# EAGLE library part MCU (library F_ck)
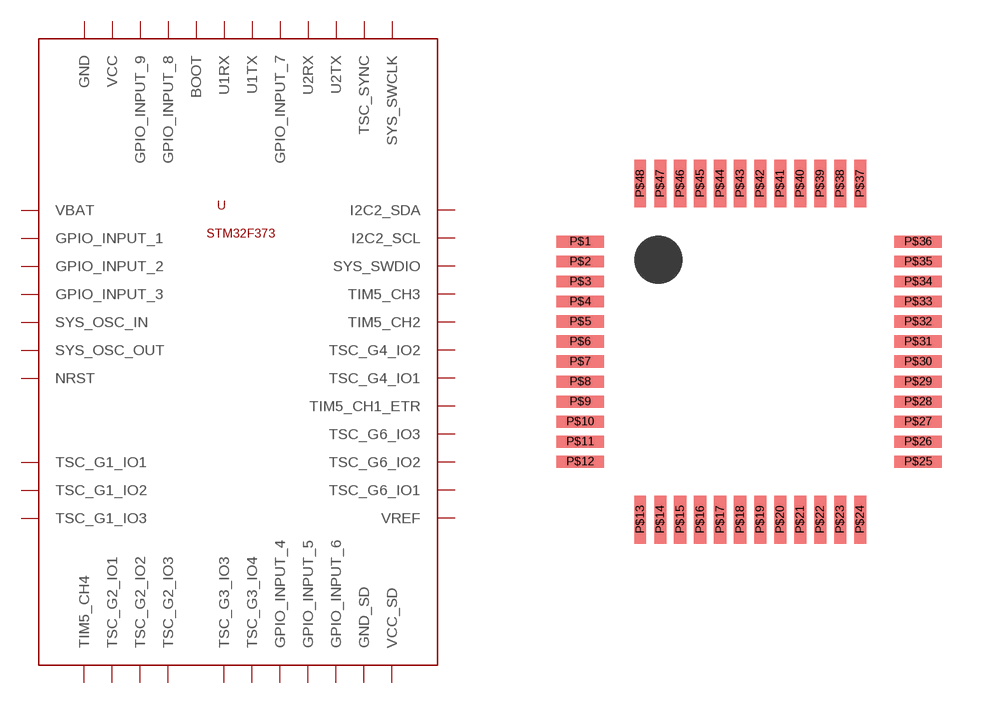
[diagram p3: symbol with the pads of LQFP48; footprint LQFP48]

Designator prefix U

## MCU  [LQFP48]
P$1  VBAT
P$2  GPIO_INPUT_1
P$3  GPIO_INPUT_2
P$4  GPIO_INPUT_3
P$5  SYS_OSC_IN
P$6  SYS_OSC_OUT
P$7  NRST
P$8  GND
P$9  VCC
P$10  TSC_G1_IO1
P$11  TSC_G1_IO2
P$12  TSC_G1_IO3
P$13  TIM5_CH4
P$14  TSC_G2_IO1
P$15  TSC_G2_IO2
P$16  TSC_G2_IO3
P$17  VCC
P$18  TSC_G3_IO3
P$19  TSC_G3_IO4
P$20  GPIO_INPUT_4
P$21  GPIO_INPUT_5
P$22  GPIO_INPUT_6
P$23  GND_SD
P$24  VCC_SD
P$25  VREF
P$26  TSC_G6_IO1
P$27  TSC_G6_IO2
P$28  TSC_G6_IO3
P$29  TIM5_CH1_ETR
P$30  TSC_G4_IO1
P$31  TSC_G4_IO2
P$32  TIM5_CH2
P$33  TIM5_CH3
P$34  SYS_SWDIO
P$35  I2C2_SCL
P$36  I2C2_SDA
P$37  SYS_SWCLK
P$38  TSC_SYNC
P$39  U2TX
P$40  U2RX
P$41  GPIO_INPUT_7
P$42  U1TX
P$43  U1RX
P$44  BOOT
P$45  GPIO_INPUT_8
P$46  GPIO_INPUT_9
P$47  GND
P$48  VCC

## Footprint LQFP48 (pad centres in mm)
smd 1.2 x 0.3: P$1 -4.25,2.75; P$2 -4.25,2.25; P$3 -4.25,1.75; P$4 -4.25,1.25; P$5 -4.25,0.75; P$6 -4.25,0.25; P$7 -4.25,-0.25; P$8 -4.25,-0.75; P$9 -4.25,-1.25; P$10 -4.25,-1.75; P$11 -4.25,-2.25; P$12 -4.25,-2.75; P$25 4.2,-2.75; P$26 4.2,-2.25; P$27 4.2,-1.75; P$28 4.2,-1.25; P$29 4.2,-0.75; P$30 4.2,-0.25; P$31 4.2,0.25; P$32 4.2,0.75; P$33 4.2,1.25; P$34 4.2,1.75; P$35 4.2,2.25; P$36 4.2,2.75
smd 0.3 x 1.2: P$13 -2.75,-4.2; P$14 -2.25,-4.2; P$15 -1.75,-4.2; P$16 -1.25,-4.2; P$17 -0.75,-4.2; P$18 -0.25,-4.2; P$19 0.25,-4.2; P$20 0.75,-4.2; P$21 1.25,-4.2; P$22 1.75,-4.2; P$23 2.25,-4.2; P$24 2.75,-4.2; P$37 2.75,4.2; P$38 2.25,4.2; P$39 1.75,4.2; P$40 1.25,4.2; P$41 0.75,4.2; P$42 0.25,4.2; P$43 -0.25,4.2; P$44 -0.75,4.2; P$45 -1.25,4.2; P$46 -1.75,4.2; P$47 -2.25,4.2; P$48 -2.75,4.2